# Altium schematic symbol library Schlib3.SchLib: 1 symbol
Pins are listed as number, name and electrical type; pins without a type are passive.

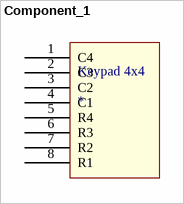
[diagram p0: symbol Component_1]

## Component_1
designator Keypad 4x4
footprint CON8
pins: 1 C4, 2 C3, 3 C2, 4 C1, 5 R4, 6 R3, 7 R2, 8 R1